# Altium integrated library keypad_4x4.IntLib: 1 symbol
Pins are listed as number, name and electrical type; pins without a type are passive.

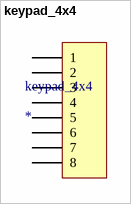
[diagram p0: symbol keypad_4x4]

## keypad_4x4
designator keypad_4x4
footprint keypad_4x4
pins: 1, 2, 3, 4, 5, 6, 7, 8